# Altium schematic symbol library laf.SchLib: 6 symbols
Pins are listed as number, name and electrical type; pins without a type are passive.

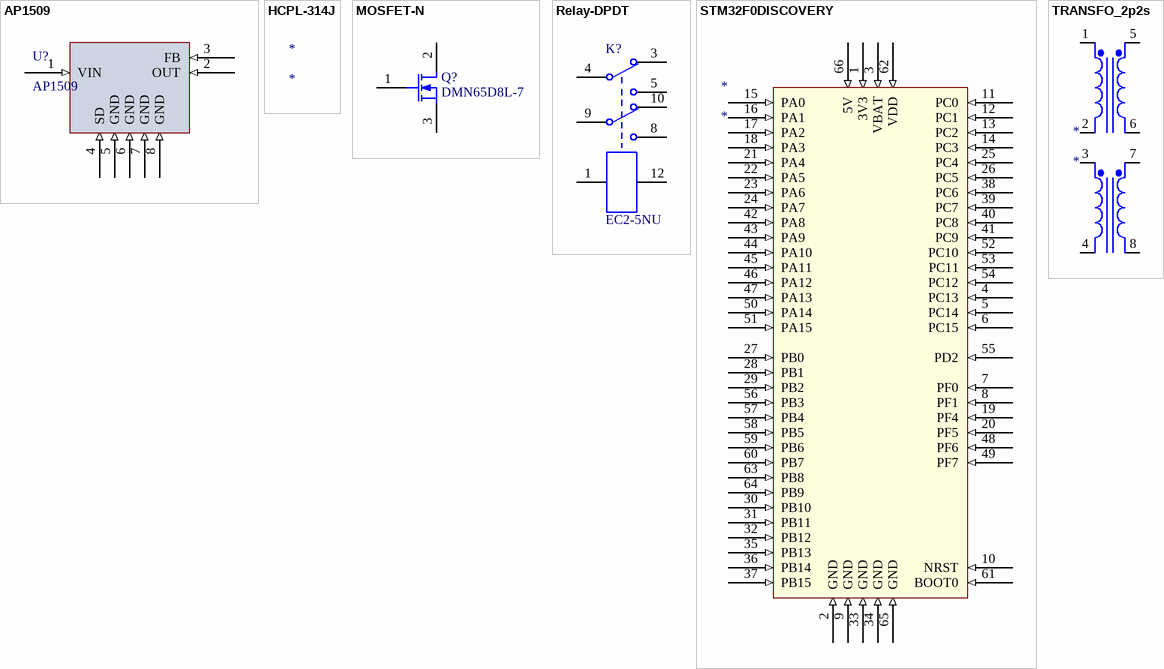
[diagram p0: symbols AP1509 to TRANSFO_2p2s]

## AP1509
designator U?
pins: 1 VIN (in), 2 OUT (in), 3 FB (in), 4 SD (in), 5 GND (in), 6 GND (in), 7 GND (in), 8 GND (in)

## HCPL-314J
designator *
2 alternate drawings of the same symbol

## MOSFET-N
designator Q?, comment DMN65D8L-7
N-Channel MOSFET; Published: 8-Jun-2000; LatestRevisionDate: 17-Jul-2002; LatestRevisionNote: Re-released for DXP Platform.; PackageVersion: 1995/1996; PackageReference: E3; Publisher: Altium Limited; PackageDescription: TO, Flat Index; 3 In-Line, Axial Leads; Body Dia. 4.6mm; Lead Dia. 0.5 mm (max)
footprint E3 (TO, Flat Index; 3 In-Line, Axial Leads; Body Dia. 4.6mm; Lead Dia. 0.5 mm (max))
simulation model NMOS (MOSFET-N)
pins: 1 G, 2 D, 3 S

## Relay-DPDT
designator K?, comment EC2-5NU
Dual-Pole Dual-Throw Relay; Published: 24-Mar-1999; LatestRevisionDate: 17-Jul-2002; LatestRevisionNote: Re-released for DXP Platform.; PackageReference: DIP-P8; Publisher: Altium Limited; PackageDescription: Relay; 8 Leads
footprint DIP-P8 (Dual-Pole Dual-Throw Relay; 8 Leads)
simulation model DPDTRELAY (Spice Subcircuit)
pins: 1, 3, 4, 5, 8, 9, 10, 12

## STM32F0DISCOVERY
designator *
pins: 1 3V3 (in), 2 GND (in), 3 VBAT (in), 4 PC13 (in), 5 PC14 (in), 6 PC15 (in), 7 PF0 (in), 8 PF1 (in), 9 GND (in), 10 NRST (in), 11 PC0 (in), 12 PC1 (in), 13 PC2 (in), 14 PC3 (in), 15 PA0 (in), 16 PA1 (in), 17 PA2 (in), 18 PA3 (in), 19 PF4 (in), 20 PF5 (in), 21 PA4 (in), 22 PA5 (in), 23 PA6 (in), 24 PA7 (in), 25 PC4 (in), 26 PC5 (in), 27 PB0 (in), 28 PB1 (in), 29 PB2 (in), 30 PB10 (in), 31 PB11 (in), 32 PB12 (in), 33 GND (in), 34 GND (in), 35 PB13 (in), 36 PB14 (in), 37 PB15 (in), 38 PC6 (in), 39 PC7 (in), 40 PC8 (in), 41 PC9 (in), 42 PA8 (in), 43 PA9 (in), 44 PA10 (in), 45 PA11 (in), 46 PA12 (in), 47 PA13 (in), 48 PF6 (in), 49 PF7 (in), 50 PA14 (in), 51 PA15 (in), 52 PC10 (in), 53 PC11 (in), 54 PC12 (in), 55 PD2 (in), 56 PB3 (in), 57 PB4 (in), 58 PB5 (in), 59 PB6 (in), 60 PB7 (in), 61 BOOT0 (in), 62 VDD (in), 63 PB8 (in), 64 PB9 (in), 65 GND (in), 66 5V (in)

## TRANSFO_2p2s
designator *
pins: 1 Pri+, 2 Pri-, 3 Pri2+, 4 Pri2-, 5 Sec1+, 6 Sec1-, 7 Sec2+, 8 Sec2-